# EAGLE library part AD7903 (library ad7903)
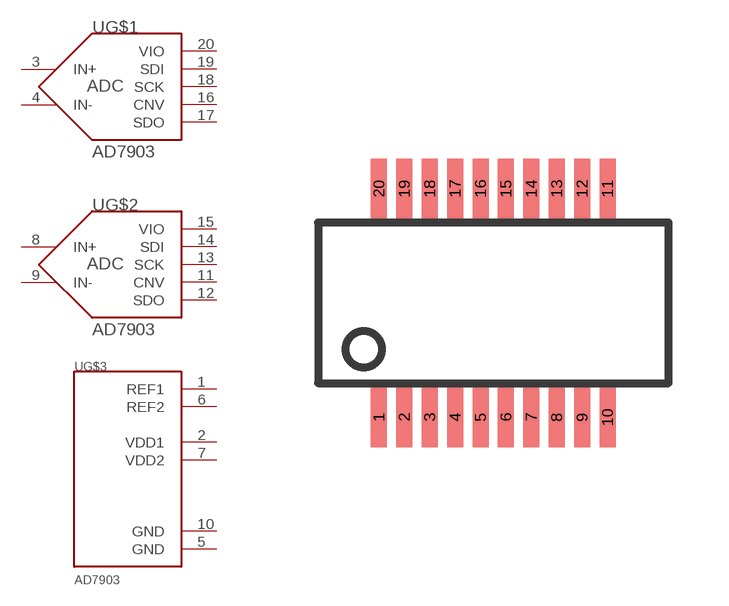
[diagram p0: symbol with the pads of QSOP20(RQ-20); footprint QSOP20(RQ-20)]

Designator prefix U; gates G$1=AD7903 G$2=AD7903 G$3=AD7903PWR

## AD7903  [QSOP20(RQ-20)]
1  G$3:REF1  pwr
2  G$3:VDD1  pwr
3  G$1:IN+  pas
4  G$1:IN-  pas
5  G$3:GND  pwr
6  G$3:REF2  pwr
7  G$3:VDD2  pwr
8  G$2:IN+  pas
9  G$2:IN-  pas
10  G$3:GND  pwr
11  G$2:CNV  in
12  G$2:SDO  out
13  G$2:SCK  in
14  G$2:SDI  in
15  G$2:VIO  pwr
16  G$1:CNV  in
17  G$1:SDO  out
18  G$1:SCK  in
19  G$1:SDI  in
20  G$1:VIO  pwr

## Footprint QSOP20(RQ-20) (pad centres in mm)
20-Lead Plastic Shrink Small Outline K04-072 (SS) - 5.30 mm Source: http://ww1.microchip.com/downloads/en/DeviceDoc/40300C.pdf
smd 0.4 x 1.5: 1 -2.857,-2.857; 2 -2.223,-2.857; 3 -1.587,-2.857; 4 -0.953,-2.857; 5 -0.318,-2.857; 6 0.318,-2.857; 7 0.953,-2.857; 8 1.587,-2.857; 9 2.223,-2.857; 10 2.857,-2.857; 11 2.857,2.857; 12 2.223,2.857; 13 1.587,2.857; 14 0.953,2.857; 15 0.318,2.857; 16 -0.318,2.857; 17 -0.953,2.857; 18 -1.587,2.857; 19 -2.223,2.857; 20 -2.857,2.857